# Altium footprint library SOP65P640X120-15L25T246X231N.PCBLIB: 1 footprints
Each footprint in its own frame and in the unit in brackets; x right, y up, seen from the top. Pads: shape width x height; smd on the part's side, far side on the other; paste and mask are expansions set on the pad; w line width, h text height; cw(c..) or ccw(c..) is an arc to the next point about the centre after c.
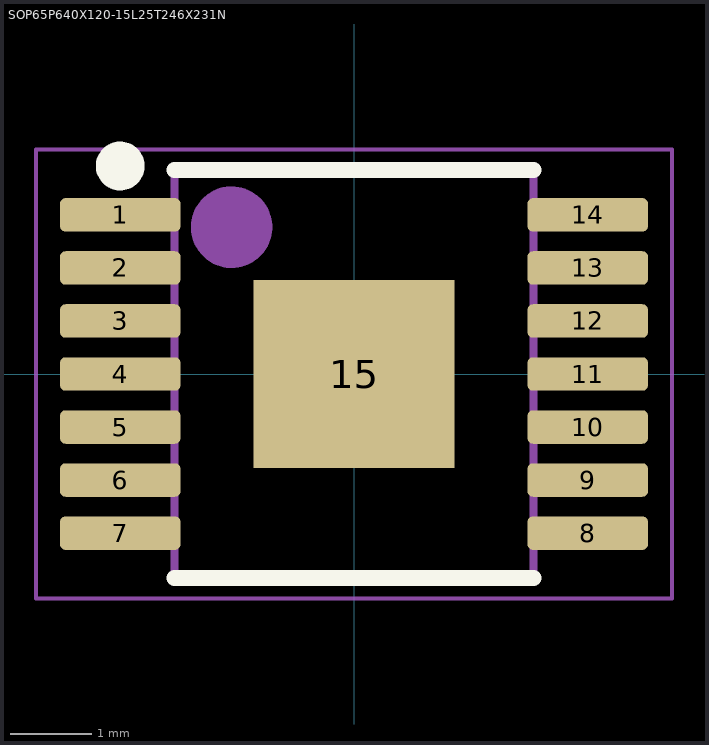
[diagram p0: the footprint, top view; thin cyan lines are the x and y axes]

## SOP65P640X120-15L25T246X231N [mm] "Small Outline Pkg (SOP with Tab), 0.65 mm pitch; 14 pin, 5.00 mm L X 4.40 mm W X 1.20 mm H body"
height 1.2
pads (15):
  rrect33% 1.48x0.41 smd: 1(-2.865,1.95) 2(-2.865,1.3) 3(-2.865,0.65) 4(-2.865,0) 5(-2.865,-0.65) 6(-2.865,-1.3) 7(-2.865,-1.95) 8(2.865,-1.95) 9(2.865,-1.3) 10(2.865,-0.65) 11(2.865,0) 12(2.865,0.65) 13(2.865,1.3) 14(2.865,1.95)
  rect 2.46x2.31 smd paste-2.46 mask+0: 15(0,0)
Top Overlay:
  circle w0.3: c-2.865,2.55 r0.15
  lines w0.2: -2.2,-2.5 2.2,-2.5 ; -2.2,2.5 2.2,2.5
Top Paste:
  region: -0.995,-0.925 -0.995,-0.115 -0.115,-0.115 -0.115,-0.925
  region: 0.115,-0.925 0.115,-0.115 0.995,-0.115 0.995,-0.925
  region: -0.995,0.115 -0.995,0.925 -0.115,0.925 -0.115,0.115
  region: 0.115,0.115 0.115,0.925 0.995,0.925 0.995,0.115
Top Assembly:
  circle w0.5: c-1.5,1.8 r0.25
  lines w0.1: -2.2,-2.5 -2.2,2.5 2.2,2.5 2.2,-2.5 -2.2,-2.5
Top Courtyard:
  lines w0.05: -3.9,-2.75 -3.9,2.75 3.9,2.75 3.9,-2.75 -3.9,-2.75
Top Designator:
  text ".Designator" at 0,0 h1
Top Component Center:
  lines w0.05: -0.35,0 0.35,0 ; 0,-0.35 0,0.35
3D body "SOP65P640X120-15L25T246X231.STEP": height 1.2, standoff 0, extent -3.2,-2.5 3.2,2.5